# EAGLE library part SIP32419 (library vreg-linear)
LOAD SWITCH 3A 28V 10DFN
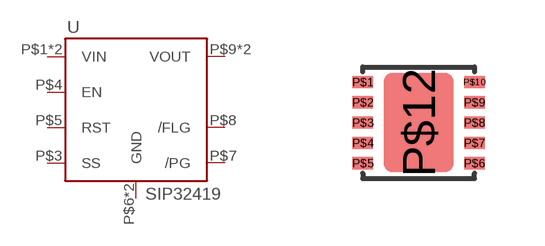
[diagram p2: symbol with the pads of VFDFN-10; footprint VFDFN-10]

Designator prefix U

## SIP32419 (DIGIKEY: SIP32419DN-T1-GE4CT-ND; MPN: SIP32419DN-T1-GE4; P1I: o)  [VFDFN-10]
P$1  VIN
P$2  VIN
P$3  SS
P$4  EN
P$5  RST
P$6  GND
P$7  /PG
P$8  /FLG
P$9  VOUT
P$10  VOUT
P$12  GND

## Footprint VFDFN-10 (pad centres in mm)
smd 0.508 x 0.305: P$1 -1.397,1.016; P$2 -1.397,0.508; P$3 -1.397,0; P$4 -1.397,-0.508; P$5 -1.397,-1.016; P$6 1.397,-1.016; P$7 1.397,-0.508; P$8 1.397,0; P$9 1.397,0.508; P$10 1.397,1.016
smd 1.753 x 2.489: P$12 0,0